# Altium footprint library Devindia_v4.0.PcbLib: 116 footprints (part 3 of 8)
Each footprint in its own frame and in the unit in brackets; x right, y up, seen from the top. Pads: shape width x height; smd on the part's side, far side on the other; paste and mask are expansions set on the pad; w line width, h text height; cw(c..) or ccw(c..) is an arc to the next point about the centre after c.
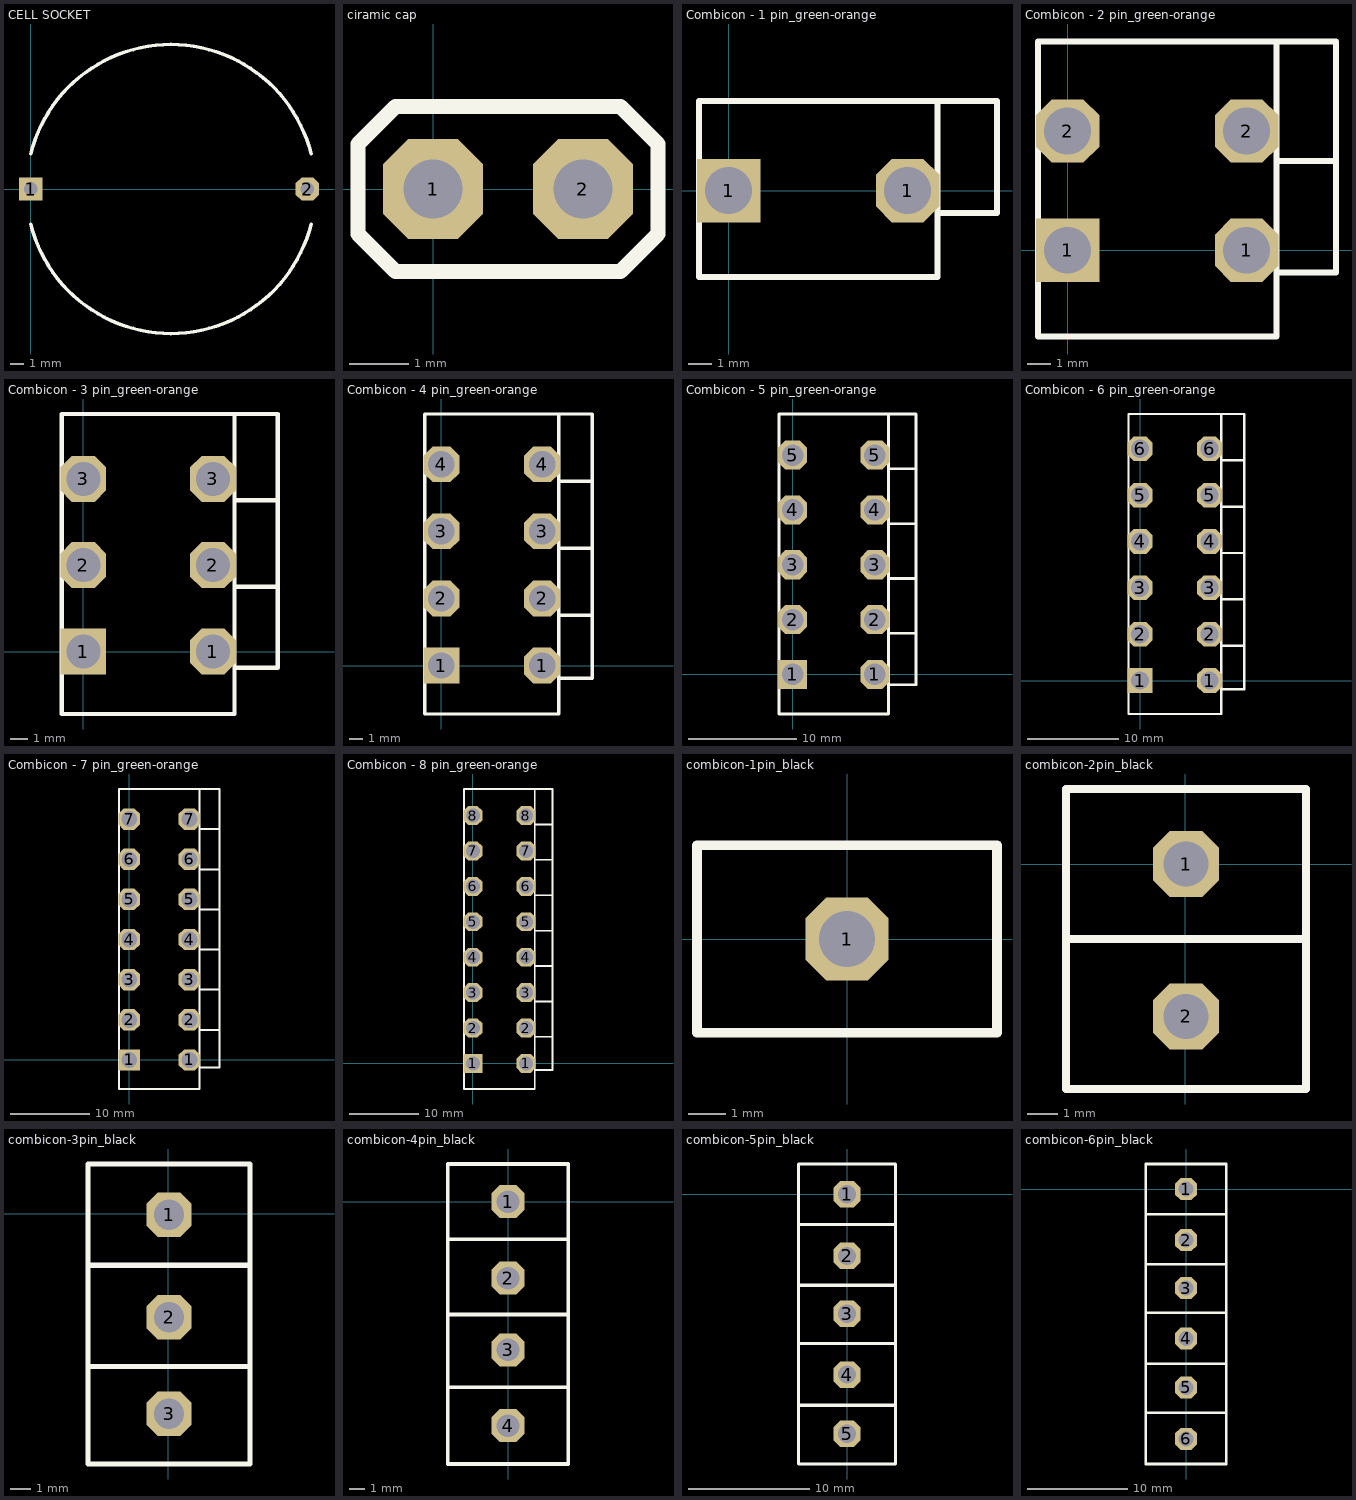
[diagram p2: the footprints below, top view; thin cyan lines are the x and y axes]

## CELL SOCKET [mm]
pads (2):
  rect 1.7x1.7 hole 1: 1(0,0)
  oct 1.7x1.7 hole 1: 2(20.04,0)
Top Overlay:
  lines w0.254: 0,-2.54 ccw(c10.16,0) 20.32,-2.54 ; 0,2.54 cw(c10.16,0) 20.32,2.54
3D body: height 5.3, standoff 4.3, extent -0.346,-9.039 17.618,8.89
3D body: height 4.3, standoff 0, extent -2.497,-11.049 19.515,11.007
3D body: height 8.7, standoff 0, extent 18.407,-4.033 22.471,3.714

## ciramic cap [mm]
height 2
pads (2):
  oct 1.7x1.7 hole 1: 1(0,0) 2(2.54,0)
Top Overlay:
  lines w0.254: -1.27,-0.762 -0.635,-1.397 3.175,-1.397 3.81,-0.762 3.81,0.762 3.175,1.397 -0.635,1.397 -1.27,0.762 -1.27,-0.762
3D body: height 2, standoff 0, extent 2.413,-0.254 2.667,0.254
3D body: height 2, standoff 0, extent -0.127,-0.254 0.127,0.254
3D body: height 3.98, standoff 0, extent -0.726,-0.492 3.266,0.508

## Combicon - 1 pin_green-orange [mm]
pads (2):
  rect 2.7x2.7 hole 2: 1(0,0)
  oct 2.7x2.7 hole 2: 1(7.62,0)
Top Overlay:
  lines w0.254: 8.956,-0.95 11.43,-0.95 11.43,3.81 8.89,3.81 ; 8.89,3.81 8.89,-3.67 -1.27,-3.67 -1.27,0.07 -1.27,3.81 8.89,3.81
3D body: height 13.66, standoff 7.75, extent 8.89,-1.016 11.43,3.81
3D body: height 13.5, standoff 13, extent 5.969,-1.503 8.864,1.397
3D body: height 13, standoff 0, extent -1.27,-3.683 8.89,3.81

## Combicon - 2 pin_green-orange [mm]
pads (4):
  rect 2.7x2.7 hole 2: 1(0,0)
  oct 2.7x2.7 hole 2: 1(7.62,0) 2(0,5.08) 2(7.62,5.08)
Top Overlay:
  lines w0.254: 8.956,-0.95 11.43,-0.95 11.43,3.81 ; 8.89,3.81 11.43,3.81 ; 8.89,3.81 8.89,-3.67 -1.27,-3.67 -1.27,0.07 -1.27,8.89 8.89,8.89 ; 8.89,3.81 8.89,8.89 ; 8.89,8.89 11.43,8.89 11.43,3.81
3D body: height 13.66, standoff 7.75, extent 8.89,-1.016 11.43,3.81
3D body: height 13.66, standoff 7.75, extent 8.89,4.064 11.43,8.89
3D body: height 13.5, standoff 13, extent 5.969,3.577 8.864,6.477
3D body: height 13.5, standoff 13, extent 5.969,-1.503 8.864,1.397
3D body: height 13, standoff 0, extent -1.27,-3.683 8.89,8.89

## Combicon - 3 pin_green-orange [mm]
pads (6):
  rect 2.7x2.7 hole 2: 1(0,0)
  oct 2.7x2.7 hole 2: 1(7.62,0) 2(0,5.08) 2(7.62,5.08) 3(0,10.16) 3(7.62,10.16)
Top Overlay:
  lines w0.254: 8.89,8.89 11.43,8.89 ; 8.956,-0.95 11.43,-0.95 11.43,3.81 ; 8.89,3.81 11.43,3.81 ; 8.89,3.81 8.89,-3.67 -1.27,-3.67 -1.27,0.07 -1.27,13.97 8.89,13.97 ; 8.89,3.81 8.89,13.97 ; 8.89,13.97 11.43,13.97 11.43,8.89 ; 11.43,3.81 11.43,8.89
3D body: height 13.66, standoff 7.75, extent 8.89,-1.016 11.43,3.81
3D body: height 13.66, standoff 7.75, extent 8.89,4.064 11.43,8.89
3D body: height 13.66, standoff 7.75, extent 8.89,9.144 11.43,13.97
3D body: height 13.5, standoff 13, extent 5.969,8.657 8.864,11.557
3D body: height 13.5, standoff 13, extent 5.969,3.577 8.864,6.477
3D body: height 13.5, standoff 13, extent 5.969,-1.503 8.864,1.397
3D body: height 13, standoff 0, extent -1.27,-3.683 8.89,13.97

## Combicon - 4 pin_green-orange [mm]
pads (8):
  rect 2.7x2.7 hole 2: 1(0,0)
  oct 2.7x2.7 hole 2: 1(7.62,0) 2(0,5.08) 2(7.62,5.08) 3(0,10.16) 3(7.62,10.16) 4(0,15.24) 4(7.62,15.24)
Top Overlay:
  lines w0.254: 8.89,8.89 11.43,8.89 ; 8.89,13.97 11.43,13.97 ; 8.956,-0.95 11.43,-0.95 11.43,3.81 ; 8.89,3.81 11.43,3.81 ; 8.89,3.81 8.89,-3.67 -1.27,-3.67 -1.27,0.07 -1.27,19.05 8.89,19.05 ; 8.89,3.81 8.89,19.05 ; 8.89,19.05 11.43,19.05 11.43,13.97 ; 11.43,3.81 11.43,8.89 ; 11.43,8.89 11.43,13.97
3D body: height 13.66, standoff 7.75, extent 8.89,-1.016 11.43,3.81
3D body: height 13.66, standoff 7.75, extent 8.89,4.064 11.43,8.89
3D body: height 13.66, standoff 7.75, extent 8.89,9.144 11.43,13.97
3D body: height 13.66, standoff 7.75, extent 8.89,14.224 11.43,19.05
3D body: height 13.5, standoff 13, extent 5.969,13.737 8.864,16.637
3D body: height 13.5, standoff 13, extent 5.969,8.657 8.864,11.557
3D body: height 13.5, standoff 13, extent 5.969,3.577 8.864,6.477
3D body: height 13.5, standoff 13, extent 5.969,-1.503 8.864,1.397
3D body: height 13, standoff 0, extent -1.27,-3.683 8.89,19.05

## Combicon - 5 pin_green-orange [mm]
pads (10):
  rect 2.7x2.7 hole 2: 1(0,0)
  oct 2.7x2.7 hole 2: 1(7.62,0) 2(0,5.08) 2(7.62,5.08) 3(0,10.16) 3(7.62,10.16) 4(0,15.24) 4(7.62,15.24) 5(0,20.32) 5(7.62,20.32)
Top Overlay:
  lines w0.254: 8.89,8.89 11.43,8.89 ; 8.89,13.97 11.43,13.97 ; 8.89,19.05 11.43,19.05 ; 8.956,-0.95 11.43,-0.95 11.43,3.81 ; 8.89,3.81 8.89,24.13 ; 8.89,3.81 8.89,-3.67 -1.27,-3.67 -1.27,0.07 -1.27,24.13 8.89,24.13 ; 8.89,3.81 11.43,3.81 ; 8.89,24.13 11.43,24.13 11.43,19.05 ; 11.43,3.81 11.43,8.89 ; 11.43,8.89 11.43,13.97 ; 11.43,13.97 11.43,19.05
3D body: height 13, standoff 0, extent -1.27,-3.683 8.89,24.13
3D body: height 13.5, standoff 13, extent 5.969,-1.503 8.864,1.397
3D body: height 13.5, standoff 13, extent 5.969,3.577 8.864,6.477
3D body: height 13.5, standoff 13, extent 5.969,8.657 8.864,11.557
3D body: height 13.5, standoff 13, extent 5.969,13.737 8.864,16.637
3D body: height 13.5, standoff 13, extent 5.969,18.817 8.864,21.717
3D body: height 13.66, standoff 7.75, extent 8.89,19.304 11.43,24.13
3D body: height 13.66, standoff 7.75, extent 8.89,14.224 11.43,19.05
3D body: height 13.66, standoff 7.75, extent 8.89,9.144 11.43,13.97
3D body: height 13.66, standoff 7.75, extent 8.89,4.064 11.43,8.89
3D body: height 13.66, standoff 7.75, extent 8.89,-1.016 11.43,3.81

## Combicon - 6 pin_green-orange [mm]
pads (12):
  rect 2.7x2.7 hole 2: 1(0,0)
  oct 2.7x2.7 hole 2: 1(7.62,0) 2(0,5.08) 2(7.62,5.08) 3(0,10.16) 3(7.62,10.16) 4(0,15.24) 4(7.62,15.24) 5(0,20.32) 5(7.62,20.32) 6(0,25.4) 6(7.62,25.4)
Top Overlay:
  lines w0.254: 8.89,8.89 11.43,8.89 ; 8.89,13.97 11.43,13.97 ; 8.89,19.05 11.43,19.05 ; 8.89,24.13 11.43,24.13 ; 8.956,-0.95 11.43,-0.95 11.43,3.81 ; 8.89,3.81 11.43,3.81 ; 8.89,3.81 8.89,-3.67 -1.27,-3.67 -1.27,0.07 -1.27,29.21 8.89,29.21 ; 8.89,3.81 8.89,29.21 ; 8.89,29.21 11.43,29.21 11.43,24.13 ; 11.43,3.81 11.43,8.89 ; 11.43,8.89 11.43,13.97 ; 11.43,13.97 11.43,19.05 ; 11.43,19.05 11.43,24.13
3D body: height 13.66, standoff 7.75, extent 8.89,-1.016 11.43,3.81
3D body: height 13.66, standoff 7.75, extent 8.89,4.064 11.43,8.89
3D body: height 13.66, standoff 7.75, extent 8.89,9.144 11.43,13.97
3D body: height 13.66, standoff 7.75, extent 8.89,14.224 11.43,19.05
3D body: height 13.66, standoff 7.75, extent 8.89,19.304 11.43,24.13
3D body: height 13.66, standoff 7.75, extent 8.89,24.384 11.43,29.21
3D body: height 13.5, standoff 13, extent 5.969,23.897 8.864,26.797
3D body: height 13.5, standoff 13, extent 5.969,18.817 8.864,21.717
3D body: height 13.5, standoff 13, extent 5.969,13.737 8.864,16.637
3D body: height 13.5, standoff 13, extent 5.969,8.657 8.864,11.557
3D body: height 13.5, standoff 13, extent 5.969,3.577 8.864,6.477
3D body: height 13.5, standoff 13, extent 5.969,-1.503 8.864,1.397
3D body: height 13, standoff 0, extent -1.27,-3.683 8.89,29.21

## Combicon - 7 pin_green-orange [mm]
pads (14):
  rect 2.7x2.7 hole 2: 1(0,0)
  oct 2.7x2.7 hole 2: 1(7.62,0) 2(0,5.08) 2(7.62,5.08) 3(0,10.16) 3(7.62,10.16) 4(0,15.24) 4(7.62,15.24) 5(0,20.32) 5(7.62,20.32) 6(0,25.4) 6(7.62,25.4) 7(0,30.48) 7(7.62,30.48)
Top Overlay:
  lines w0.254: 8.89,8.89 11.43,8.89 ; 8.89,13.97 11.43,13.97 ; 8.89,19.05 11.43,19.05 ; 8.89,24.13 11.43,24.13 ; 8.89,29.21 11.43,29.21 ; 8.956,-0.95 11.43,-0.95 11.43,3.81 ; 8.89,3.81 11.43,3.81 ; 8.89,3.81 8.89,-3.67 -1.27,-3.67 -1.27,0.07 -1.27,34.29 8.89,34.29 ; 8.89,3.81 8.89,34.29 ; 8.89,34.29 11.43,34.29 ; 8.89,34.29 11.43,34.29 ; 11.43,3.81 11.43,8.89 ; 11.43,8.89 11.43,13.97 ; 11.43,13.97 11.43,19.05 ; 11.43,19.05 11.43,24.13 ; 11.43,24.13 11.43,29.21 ; 11.43,29.21 11.43,34.29
3D body: height 13.66, standoff 7.75, extent 8.89,-1.016 11.43,3.81
3D body: height 13.66, standoff 7.75, extent 8.89,4.064 11.43,8.89
3D body: height 13.66, standoff 7.75, extent 8.89,9.144 11.43,13.97
3D body: height 13.66, standoff 7.75, extent 8.89,14.224 11.43,19.05
3D body: height 13.66, standoff 7.75, extent 8.89,19.304 11.43,24.13
3D body: height 13.66, standoff 7.75, extent 8.89,24.384 11.43,29.21
3D body: height 13.66, standoff 7.75, extent 9.017,29.464 11.557,34.29
3D body: height 13.5, standoff 13, extent 5.969,28.977 8.864,31.877
3D body: height 13.5, standoff 13, extent 5.969,23.897 8.864,26.797
3D body: height 13.5, standoff 13, extent 5.969,18.817 8.864,21.717
3D body: height 13.5, standoff 13, extent 5.969,13.737 8.864,16.637
3D body: height 13.5, standoff 13, extent 5.969,8.657 8.864,11.557
3D body: height 13.5, standoff 13, extent 5.969,3.577 8.864,6.477
3D body: height 13.5, standoff 13, extent 5.969,-1.503 8.864,1.397
3D body: height 13, standoff 0, extent -1.27,-3.683 8.89,34.29

## Combicon - 8 pin_green-orange [mm]
pads (16):
  rect 2.7x2.7 hole 2: 1(0,0)
  oct 2.7x2.7 hole 2: 1(7.62,0) 2(0,5.08) 2(7.62,5.08) 3(0,10.16) 3(7.62,10.16) 4(0,15.24) 4(7.62,15.24) 5(0,20.32) 5(7.62,20.32) 6(0,25.4) 6(7.62,25.4) 7(0,30.48) 7(7.62,30.48) 8(0,35.56) 8(7.62,35.56)
Top Overlay:
  lines w0.254: 8.89,8.89 11.43,8.89 ; 8.89,13.97 11.43,13.97 ; 8.89,19.05 11.43,19.05 ; 8.89,24.13 11.43,24.13 ; 8.89,29.21 11.43,29.21 ; 8.89,34.29 11.43,34.29 ; 8.956,-0.95 11.43,-0.95 11.43,3.81 ; 8.89,3.81 8.89,39.37 ; 8.89,3.81 8.89,-3.67 -1.27,-3.67 -1.27,0.07 -1.27,39.37 8.89,39.37 ; 8.89,3.81 11.43,3.81 ; 8.89,39.37 11.43,39.37 11.43,34.29 ; 11.43,3.81 11.43,8.89 ; 11.43,8.89 11.43,13.97 ; 11.43,13.97 11.43,19.05 ; 11.43,19.05 11.43,24.13 ; 11.43,24.13 11.43,29.21 ; 11.43,29.21 11.43,34.29
3D body: height 13, standoff 0, extent -1.27,-3.683 8.89,39.37
3D body: height 13.5, standoff 13, extent 5.969,-1.503 8.864,1.397
3D body: height 13.5, standoff 13, extent 5.969,3.577 8.864,6.477
3D body: height 13.5, standoff 13, extent 5.969,8.657 8.864,11.557
3D body: height 13.5, standoff 13, extent 5.969,13.737 8.864,16.637
3D body: height 13.5, standoff 13, extent 5.969,18.817 8.864,21.717
3D body: height 13.5, standoff 13, extent 5.969,23.897 8.864,26.797
3D body: height 13.5, standoff 13, extent 5.969,28.977 8.864,31.877
3D body: height 13.5, standoff 13, extent 5.969,34.057 8.864,36.957
3D body: height 13.66, standoff 7.75, extent 8.89,34.544 11.43,39.37
3D body: height 13.66, standoff 7.75, extent 9.017,29.464 11.557,34.29
3D body: height 13.66, standoff 7.75, extent 8.89,24.384 11.43,29.21
3D body: height 13.66, standoff 7.75, extent 8.89,19.304 11.43,24.13
3D body: height 13.66, standoff 7.75, extent 8.89,14.224 11.43,19.05
3D body: height 13.66, standoff 7.75, extent 8.89,9.144 11.43,13.97
3D body: height 13.66, standoff 7.75, extent 8.89,4.064 11.43,8.89
3D body: height 13.66, standoff 7.75, extent 8.89,-1.016 11.43,3.81

## combicon-1pin_black [mm]
pads (1):
  oct 2.2x2.2 hole 1.5: 1(0,0)
Top Overlay:
  lines w0.254: -4,-2.5 4,-2.5 4,2.5 -4,2.5 -4,-2.45
3D body: height 8.5, standoff 0, extent -3.937,-2.413 3.937,2.413
3D body: height 12.4, standoff 8.5, extent -2.667,-2.5 3.937,2.413
3D body: height 12.9, standoff 12.4, extent -1.778,-1.905 2.007,1.887

## combicon-2pin_black [mm]
pads (2):
  oct 2.2x2.2 hole 1.5: 1(0.025,0) 2(0.025,-5.08)
Top Overlay:
  lines w0.254: -3.975,-2.5 4.025,-2.5 ; -3.975,-7.5 -3.975,2.5 4.025,2.5 4.025,-7.5 -3.975,-7.5
3D body: height 12.9, standoff 12.4, extent -1.753,-1.905 2.032,1.887
3D body: height 12.9, standoff 12.4, extent -1.88,-6.731 1.905,-2.939
3D body: height 12.4, standoff 8.5, extent -2.642,-7.507 3.978,2.413
3D body: height 8.5, standoff 0, extent -3.912,-7.493 3.962,-2.413
3D body: height 8.5, standoff 0, extent -3.912,-2.413 3.962,2.413

## combicon-3pin_black [mm]
pads (3):
  oct 2.2x2.2 hole 1.5: 1(0.025,-0.05) 2(0.025,-5.13) 3(0.025,-9.9)
Top Overlay:
  lines w0.254: -3.975,-2.55 4.025,-2.55 ; -3.975,-7.55 4.025,-7.55 ; -3.975,-7.55 -3.975,2.45 4.025,2.45 4.025,-7.55 ; -3.975,-7.55 -3.975,-12.375 4.025,-12.375 4.025,-7.55
3D body: height 8.5, standoff 0, extent -3.912,-2.463 3.962,2.363
3D body: height 8.5, standoff 0, extent -3.912,-7.543 3.962,-2.463
3D body: height 12.4, standoff 8.5, extent -2.644,-12.387 3.985,2.363
3D body: height 12.9, standoff 12.4, extent -1.88,-6.781 1.905,-2.989
3D body: height 12.9, standoff 12.4, extent -1.753,-1.955 2.032,1.837
3D body: height 8.5, standoff 0, extent -3.912,-12.369 3.962,-7.543
3D body: height 12.9, standoff 12.4, extent -1.828,-11.83 1.957,-8.037

## combicon-4pin_black [mm]
pads (4):
  oct 2.2x2.2 hole 1.5: 1(0,0) 2(0,-5.08) 3(0,-9.85) 4(0,-14.875)
Top Overlay:
  lines w0.254: -4,-12.325 4,-12.325 ; -4,-2.5 4,-2.5 ; -4,-7.5 -4,-17.4 -3.975,-17.425 4,-17.425 4,-7.5 ; -4,-7.5 -4,2.5 4,2.5 4,-7.5 ; -4,-7.5 4,-7.5
3D body: height 12.9, standoff 12.4, extent -1.828,-16.755 1.957,-12.963
3D body: height 12.9, standoff 12.4, extent -1.853,-11.78 1.932,-7.987
3D body: height 8.5, standoff 0, extent -3.937,-12.319 3.937,-7.493
3D body: height 8.5, standoff 0, extent -3.937,-17.399 3.937,-12.319
3D body: height 12.9, standoff 12.4, extent -1.778,-1.905 2.007,1.887
3D body: height 12.9, standoff 12.4, extent -1.905,-6.731 1.88,-2.939
3D body: height 12.4, standoff 8.5, extent -2.671,-17.357 3.968,2.413
3D body: height 8.5, standoff 0, extent -3.937,-7.493 3.937,-2.413
3D body: height 8.5, standoff 0, extent -3.937,-2.413 3.937,2.413

## combicon-5pin_black [mm]
pads (5):
  oct 2.2x2.2 hole 1.5: 1(0,0) 2(0,-5.08) 3(0,-9.85) 4(0,-14.875) 5(0,-19.75)
Top Overlay:
  lines w0.254: -4,-17.4 4,-17.4 ; -4,-12.325 4,-12.325 ; -4,-2.5 4,-2.5 ; -4,-7.5 4,-7.5 ; -4,-7.5 -4,2.5 4,2.5 4,-7.5 ; -4,-7.5 -4,-22.25 4,-22.25 4,-7.5
3D body: height 8.5, standoff 0, extent -3.937,-2.413 3.937,2.413
3D body: height 8.5, standoff 0, extent -3.937,-7.493 3.937,-2.413
3D body: height 12.4, standoff 8.5, extent -2.673,-22.262 3.976,2.413
3D body: height 12.9, standoff 12.4, extent -1.905,-6.731 1.88,-2.939
3D body: height 12.9, standoff 12.4, extent -1.778,-1.905 2.007,1.887
3D body: height 8.5, standoff 0, extent -3.937,-17.399 3.937,-12.319
3D body: height 8.5, standoff 0, extent -3.937,-12.319 3.937,-7.493
3D body: height 8.5, standoff 0, extent -3.937,-22.225 3.937,-17.399
3D body: height 12.9, standoff 12.4, extent -1.853,-11.78 1.932,-7.987
3D body: height 12.9, standoff 12.4, extent -1.828,-16.755 1.957,-12.963
3D body: height 12.9, standoff 12.4, extent -1.803,-21.73 1.982,-17.938

## combicon-6pin_black [mm]
pads (6):
  oct 2.2x2.2 hole 1.5: 1(0,0) 2(0,-5.08) 3(0,-9.85) 4(0,-14.875) 5(0,-19.75) 6(0,-24.875)
Top Overlay:
  lines w0.254: -4,-27.375 -4,-27.3 -4,-7.5 ; -4,-22.25 4,-22.25 ; -4,-17.4 4,-17.4 ; -4,-12.325 4,-12.325 ; -4,-2.5 4,-2.5 ; -3.925,-27.375 4,-27.375 4,-7.5 ; -4,-7.5 -4,2.5 4,2.5 4,-7.5 ; -4,-7.5 4,-7.5
3D body: height 12.9, standoff 12.4, extent -1.803,-26.755 1.982,-22.963
3D body: height 12.9, standoff 12.4, extent -1.803,-21.73 1.982,-17.938
3D body: height 12.9, standoff 12.4, extent -1.828,-16.755 1.957,-12.963
3D body: height 12.9, standoff 12.4, extent -1.853,-11.78 1.932,-7.987
3D body: height 8.5, standoff 0, extent -3.937,-22.225 3.937,-17.399
3D body: height 8.5, standoff 0, extent -3.937,-27.305 3.937,-22.225
3D body: height 8.5, standoff 0, extent -3.937,-12.319 3.937,-7.493
3D body: height 8.5, standoff 0, extent -3.937,-17.399 3.937,-12.319
3D body: height 12.9, standoff 12.4, extent -1.778,-1.905 2.007,1.887
3D body: height 12.9, standoff 12.4, extent -1.905,-6.731 1.88,-2.939
3D body: height 12.4, standoff 8.5, extent -2.675,-27.379 3.984,2.413
3D body: height 8.5, standoff 0, extent -3.937,-7.493 3.937,-2.413
3D body: height 8.5, standoff 0, extent -3.937,-2.413 3.937,2.413